# EAGLE library part TS30012-M050QFNR (library RocketControlBoard)
IC REG BUCK 5V 2A SYNC 16-VQFN
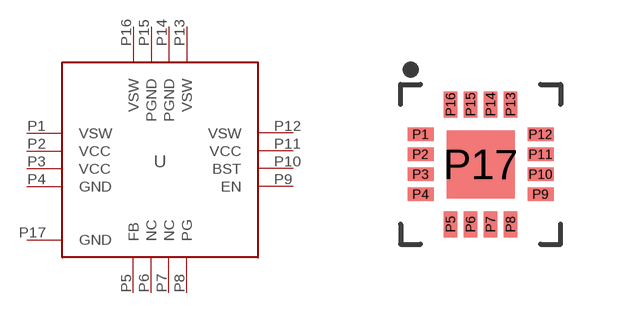
[diagram p7: symbol with the pads of TS30012-M050QFNR; footprint TS30012-M050QFNR]

Designator prefix -

## TS30012-M050QFNR (DESC: IC REG BUCK 5V 2A SYNC 16-VQFN; DIGIKEY#: TS30012-M050QFNRCT-ND; MANF: Semtech Corporation; MANF#: TS30012-M050QFNR)  [TS30012-M050QFNR]
P1  VSW
P2  VCC
P3  VCC
P4  GND
P5  FB
P6  NC
P7  NC
P8  PG
P9  EN
P10  BST
P11  VCC
P12  VSW
P13  VSW
P14  PGND
P15  PGND
P16  VSW
P17  GND

## Footprint TS30012-M050QFNR (pad centres in mm)
smd 0.65 x 0.34: P1 -1.5,0.75; P2 -1.5,0.25; P3 -1.5,-0.25; P4 -1.5,-0.75; P9 1.5,-0.75; P10 1.5,-0.25; P11 1.5,0.25; P12 1.5,0.75
smd 0.34 x 0.65: P5 -0.75,-1.5; P6 -0.25,-1.5; P7 0.25,-1.5; P8 0.75,-1.5; P13 0.75,1.5; P14 0.25,1.5; P15 -0.25,1.5; P16 -0.75,1.5
smd 1.7 x 1.7: P17 0,0